# Altium footprint library screw terminal.PcbLib: 1 footprints
Each footprint in its own frame and in the unit in brackets; x right, y up, seen from the top. Pads: shape width x height; smd on the part's side, far side on the other; paste and mask are expansions set on the pad; w line width, h text height; cw(c..) or ccw(c..) is an arc to the next point about the centre after c.
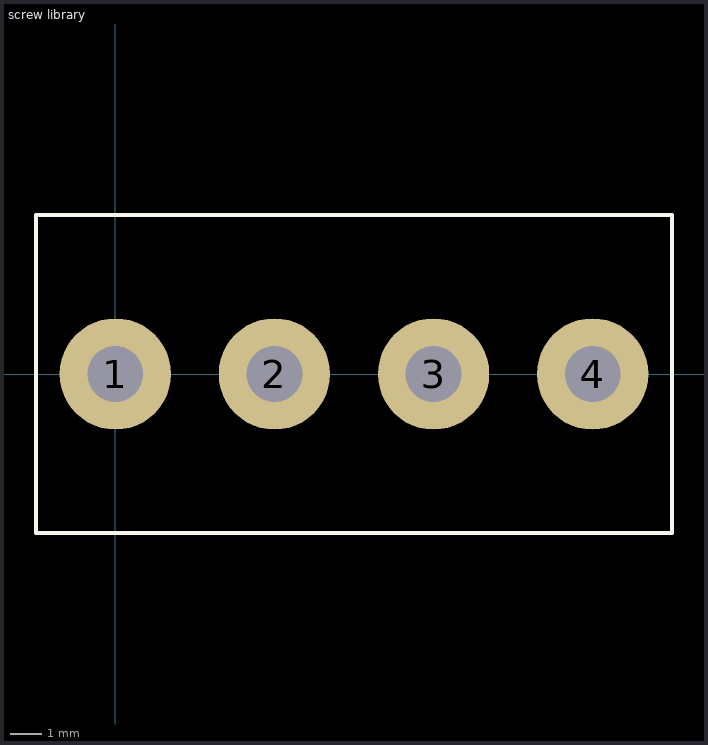
[diagram p0: the footprint, top view; thin cyan lines are the x and y axes]

## screw library [mil]
pads (4):
  round 140 hole 70: 1(0,0) 2(200,0) 3(400,0) 4(600,0)
Top Overlay:
  lines w5: -100,-200 -100,200 700,200 700,-200 -100,-200